# Altium footprint library TSSOP-8.PcbLib: 1 footprints
Each footprint in its own frame and in the unit in brackets; x right, y up, seen from the top. Pads: shape width x height; smd on the part's side, far side on the other; paste and mask are expansions set on the pad; w line width, h text height; cw(c..) or ccw(c..) is an arc to the next point about the centre after c.
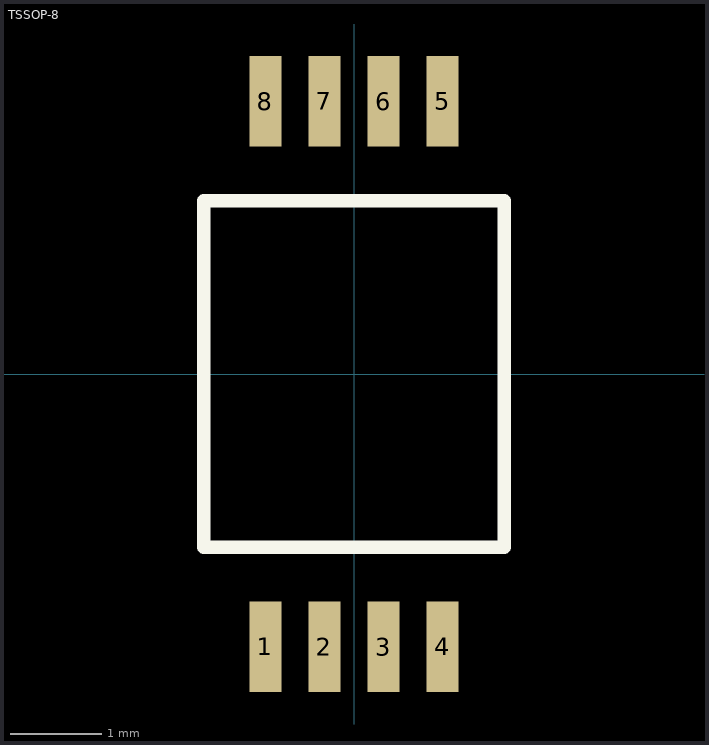
[diagram p0: the footprint, top view; thin cyan lines are the x and y axes]

## TSSOP-8 [mm]
pads (8):
  rect 0.35x1 smd: 1(-0.975,-3) 2(-0.325,-3) 3(0.325,-3) 4(0.975,-3) 5(0.975,3) 6(0.325,3) 7(-0.325,3) 8(-0.975,3)
Top Overlay:
  lines w0.15: -1.651,-1.905 1.651,-1.905 1.651,1.905 -1.651,1.905 -1.651,-1.905
  text "." at -1.857,-3.1 h0.38
3D body "User Library-TSSOP-8.STEP": height 1.2, standoff 0, extent -1.5,-3.2 1.5,3.2